# EAGLE library part VL53L0X (library FootVibrator)
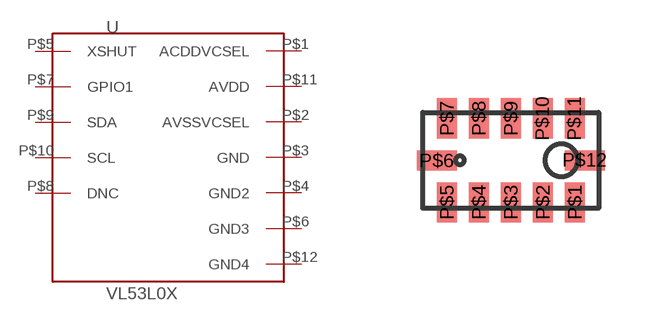
[diagram p0: symbol with the pads of VL53L0X; footprint VL53L0X]

Designator prefix U

## VL53L0X  [VL53L0X]
P$1  ACDDVCSEL
P$2  AVSSVCSEL
P$3  GND
P$4  GND2
P$5  XSHUT
P$6  GND3
P$7  GPIO1
P$8  DNC
P$9  SDA
P$10  SCL
P$11  AVDD
P$12  GND4

## Footprint VL53L0X (pad centres in mm)
smd 0.5 x 1: P$1 1.6,-1.05; P$2 0.8,-1.05; P$3 0,-1.05; P$4 -0.8,-1.05; P$5 -1.6,-1.05; P$7 -1.6,1.05; P$8 -0.8,1.05; P$9 0,1.05; P$10 0.8,1.05; P$11 1.6,1.05
smd 1 x 0.5: P$6 -1.85,0; P$12 1.85,0